# EAGLE library part LMR14203 (library texas)
Step-Down Voltage Regulator SIMPLE SWITCHER 42Vin, 0.3A
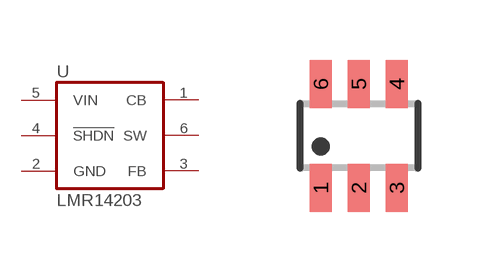
[diagram p104: symbol with the pads of SOT23-6; footprint SOT23-6]

Designator prefix U

## LMR14203  [SOT23-6]
1  CB  in
2  GND  pwr
3  FB  in
4  !SHDN!  in
5  VIN  in
6  SW  out

## Footprint SOT23-6 (pad centres in mm)
SOT-23 - DBV 0.95 mm pitch
smd 0.55 x 1.2: 1 -0.95,-1.3; 2 0,-1.3; 3 0.95,-1.3; 4 0.95,1.3; 5 0,1.3; 6 -0.95,1.3